# Altium footprint library d1.PcbLib: 1 footprints
Each footprint in its own frame and in the unit in brackets; x right, y up, seen from the top. Pads: shape width x height; smd on the part's side, far side on the other; paste and mask are expansions set on the pad; w line width, h text height; cw(c..) or ccw(c..) is an arc to the next point about the centre after c.
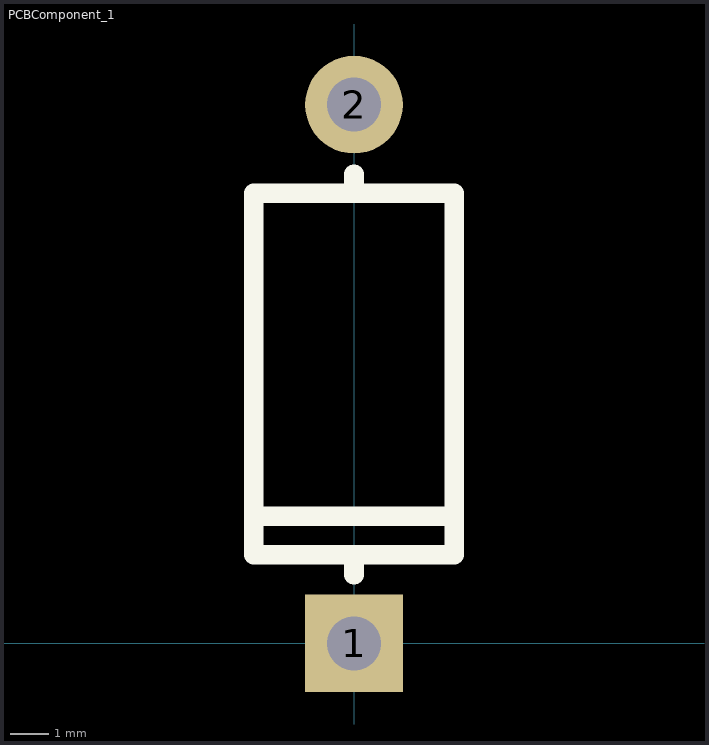
[diagram p0: the footprint, top view; thin cyan lines are the x and y axes]

## PCBComponent_1 [mm]
pads (2):
  rect 2.54x2.54 hole 1.4: 1(0,0)
  round 2.54 hole 1.4: 2(0,14)
Top Overlay:
  lines w0.508: -2.6,3.3 2.6,3.3 ; 0,1.778 0,2.3 ; 0,11.7 0,12.192 ; -2.6,2.3 -2.6,11.7 2.6,11.7 2.6,2.3 -2.6,2.3